# Altium schematic symbol library PCA9306D,118.SchLib: 2 symbols
Pins are listed as number, name and electrical type; pins without a type are passive.

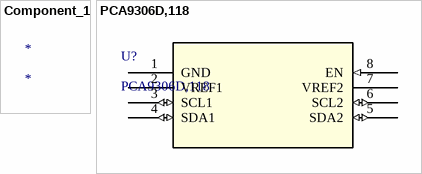
[diagram p0: symbols Component_1 to PCA9306D,118]

## Component_1
designator *

## PCA9306D,118
designator U?
No Description Available; Mfr_Name: NXP; Copyright: Copyright (C) 2021 Ultra Librarian. All rights reserved.; Manufacturer_Part_Number: PCA9306D,118; Digi-Key_Part_Number_1: 568-4215-2-ND; Digi-Key_Part_Number_2: 568-4215-1-ND; Digi-Key_Part_Number_3: 568-4215-6-ND; RefDes: RefDes; Type: DEV
footprint SO8_SOT96-1_NXP
pins: 1 GND, 2 VREF1 (power), 3 SCL1 (io), 4 SDA1 (io), 5 SDA2 (io), 6 SCL2 (io), 7 VREF2 (power), 8 EN (in)